# Altium footprint library AMPHENOL_67997-402HLF.PcbLib: 1 footprints
Each footprint in its own frame and in the unit in brackets; x right, y up, seen from the top. Pads: shape width x height; smd on the part's side, far side on the other; paste and mask are expansions set on the pad; w line width, h text height; cw(c..) or ccw(c..) is an arc to the next point about the centre after c.
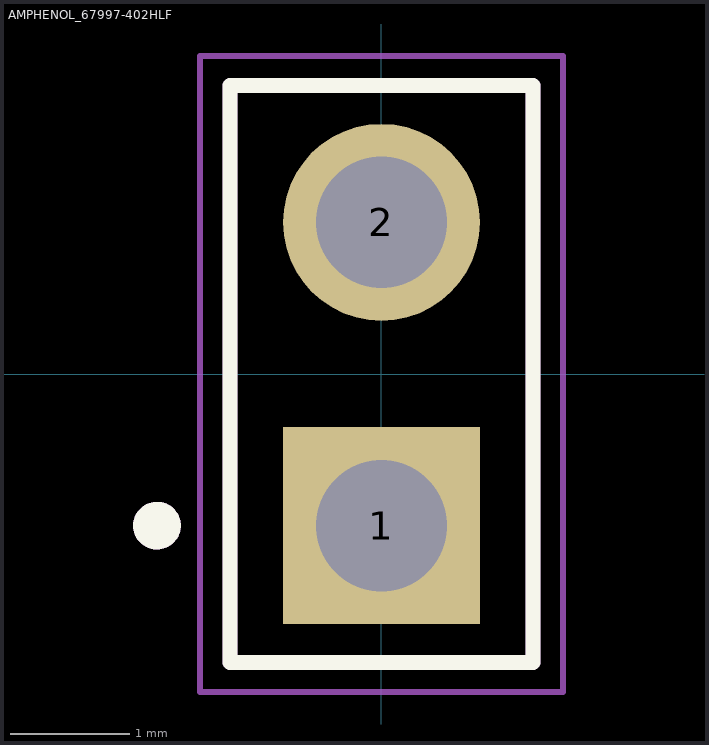
[diagram p0: the footprint, top view; thin cyan lines are the x and y axes]

## AMPHENOL_67997-402HLF [mm]
height 8.58
pads (2):
  rect 1.65x1.65 / inner round 1.65 / far side rect 1.65x1.65 hole 1.1: 1(0,-1.27)
  round 1.65 hole 1.1: 2(0,1.27)
Top Overlay:
  circle w0.2: c-1.88,-1.27 r0.1
  lines w0.127: -1.27,-2.415 1.27,-2.415 1.27,2.415 -1.27,2.415 -1.27,-2.415
Mechanical 13:
  circle w0.2: c-1.88,-1.27 r0.1
  lines w0.127: -1.27,-2.415 1.27,-2.415 1.27,2.415 -1.27,2.415 -1.27,-2.415
Mechanical 15:
  lines w0.05: -1.52,-2.665 -1.52,2.665 1.52,2.665 1.52,-2.665 -1.52,-2.665